# EAGLE library part ADP1715ARMZ-3.3-R7 (library receiver_2v0)
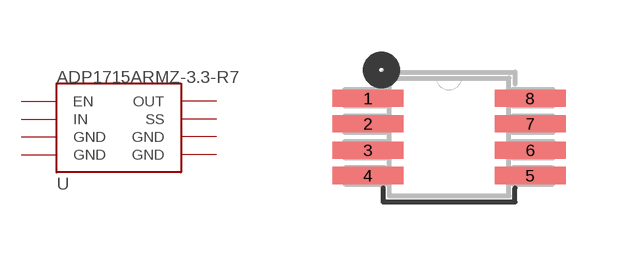
[diagram p11: symbol with the pads of RM-08; footprint RM-08]

Designator prefix U

## ADP1715ARMZ-3.3-R7  [RM-08]
1  EN  pas
2  IN  pas
3  OUT  pas
4  SS  pas
5  GND  pas
6  GND  pas
7  GND  pas
8  GND  pas

## Footprint RM-08 (pad centres in mm)
smd 1.778 x 0.432: 1 -2.032,0.965; 2 -2.032,0.33; 3 -2.032,-0.33; 4 -2.032,-0.965; 5 2.032,-0.965; 6 2.032,-0.33; 7 2.032,0.33; 8 2.032,0.965